# Altium integrated library BQ51013ARHLT.IntLib: 1 symbol
Pins are listed as number, name and electrical type; pins without a type are passive.

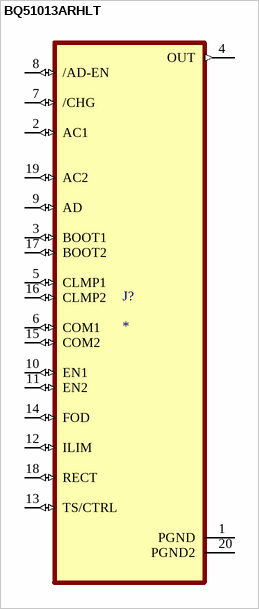
[diagram p0: symbol BQ51013ARHLT]

## BQ51013ARHLT
designator J?
Integrated Wireless power Receiver Solution, Qi (Wireless power Consortium) Compliant 20-VQFN 0 to 125; MF: Texas Instruments; MP: BQ51013ARHLT; Check_prices: https://www.snapeda.com/parts/BQ51013ARHLT/Texas%20Instruments/view-part/134659/?ref=eda; Package: VQFN-20 Texas Instruments; Value: *; Price: None; Availability: Warning; SnapEDA_Link: https://www.snapeda.com/parts/BQ51013ARHLT/Texas%20Instruments/view-part/134659/?ref=snap; Purchase-URL: https://pricing.snapeda.com/search/part/BQ51013ARHLT/?ref=eda
footprint IC_MSP430FR2522IRHLR
pins: 1 PGND (power), 2 AC1 (io), 3 BOOT1 (io), 4 OUT (out), 5 CLMP1 (io), 6 COM1 (io), 7 /CHG (io), 8 /AD-EN (io), 9 AD (io), 10 EN1 (io), 11 EN2 (io), 12 ILIM (io), 13 TS/CTRL (io), 14 FOD (io), 15 COM2 (io), 16 CLMP2 (io), 17 BOOT2 (io), 18 RECT (io), 19 AC2 (io), 20 PGND2 (power)